# Altium schematic symbol library Project Hydra - CAM.SCHLIB: 6 symbols
Pins are listed as number, name and electrical type; pins without a type are passive.

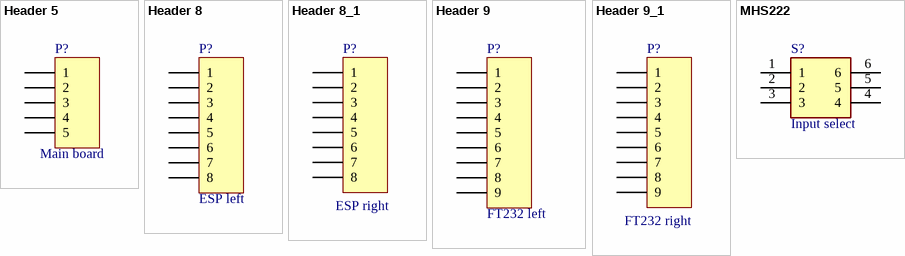
[diagram p0: symbols Header 5 to MHS222]

## Header 5
designator P?  Name: Main board  (hidden comment: Header 5)
Header, 5-Pin; LatestRevisionDate: 17-Jul-2002; LatestRevisionNote: Re-released for DXP Platform.; Publisher: Altium Limited
footprint HDR1X5 (Connector; Header; 5 Position)
signal-integrity model Connector
pins: 1, 2, 3, 4, 5

## Header 8
designator P?  Name: ESP left  (hidden comment: Header 8)
Header, 8-Pin; LatestRevisionDate: 17-Jul-2002; LatestRevisionNote: Re-released for DXP Platform.; Publisher: Altium Limited
footprint HDR1X8 (Connector; Header; 8 Position)
signal-integrity model Connector
pins: 1, 2, 3, 4, 5, 6, 7, 8

## Header 8_1
designator P?, comment Name: ESP right  (hidden comment: Header 8)
Header, 8-Pin; LatestRevisionDate: 17-Jul-2002; LatestRevisionNote: Re-released for DXP Platform.; Publisher: Altium Limited
footprint HDR1X8 (Connector; Header; 8 Position)
signal-integrity model Connector
pins: 1, 2, 3, 4, 5, 6, 7, 8

## Header 9
designator P?  Name: FT232 left  (hidden comment: Header 9)
Header, 9-Pin; LatestRevisionDate: 17-Jul-2002; LatestRevisionNote: Re-released for DXP Platform.; Publisher: Altium Limited
footprint HDR1X9 (Connector; Header; 9 Position)
signal-integrity model Connector
pins: 1, 2, 3, 4, 5, 6, 7, 8, 9

## Header 9_1
designator P?, comment Name: FT232 right  (hidden comment: Header 9)
Header, 9-Pin; LatestRevisionDate: 17-Jul-2002; LatestRevisionNote: Re-released for DXP Platform.; Publisher: Altium Limited
footprint HDR1X9 (Connector; Header; 9 Position)
signal-integrity model Connector
pins: 1, 2, 3, 4, 5, 6, 7, 8, 9

## MHS222
designator S?  Name: Input select  (hidden comment: MHS222)
Switch; Manufacturer_Name: Fujisoku; Datasheet Link: http://docs-asia.electrocomponents.com/webdocs/0fe8/0900766b80fe862b.pdf; Height: 3.5mm; Manufacturer_Part_Number: MHS222
footprint DIPS320W60P250L960H350Q6N
footprint DIP320W50P250L860H550Q6N
pins: 1, 2, 3, 4, 5, 6